# EAGLE library part CON_MOLEX_MINIFIT_2*5 (library my_con)
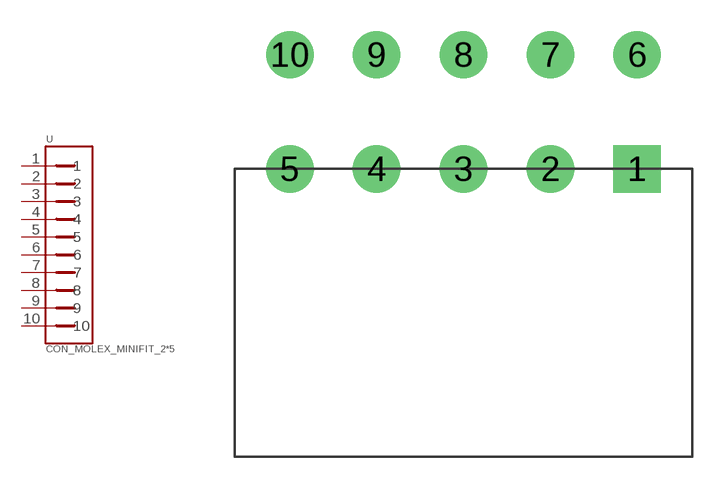
[diagram p0: symbol with the pads of CON_MOLEX_MINIFIT_2*5; footprint CON_MOLEX_MINIFIT_2*5]

Designator prefix -

## CON_MOLEX_MINIFIT_25  [CON_MOLEX_MINIFIT_2*5]
1  1  pas
2  2  pas
3  3  pas
4  4  pas
5  5  pas
6  6  pas
7  7  pas
8  8  pas
9  9  pas
10  10  pas

## Footprint CON_MOLEX_MINIFIT_2*5 (pad centres in mm)
drill 1.524 square: 1 8.382,0
drill 1.524: 2 4.191,0; 3 0,0; 4 -4.191,0; 5 -8.382,0; 6 8.382,5.512; 7 4.191,5.512; 8 0,5.512; 9 -4.191,5.512; 10 -8.382,5.512